# Altium footprint library SK12F17G7.PcbLib: 1 footprints
Each footprint in its own frame and in the unit in brackets; x right, y up, seen from the top. Pads: shape width x height; smd on the part's side, far side on the other; paste and mask are expansions set on the pad; w line width, h text height; cw(c..) or ccw(c..) is an arc to the next point about the centre after c.
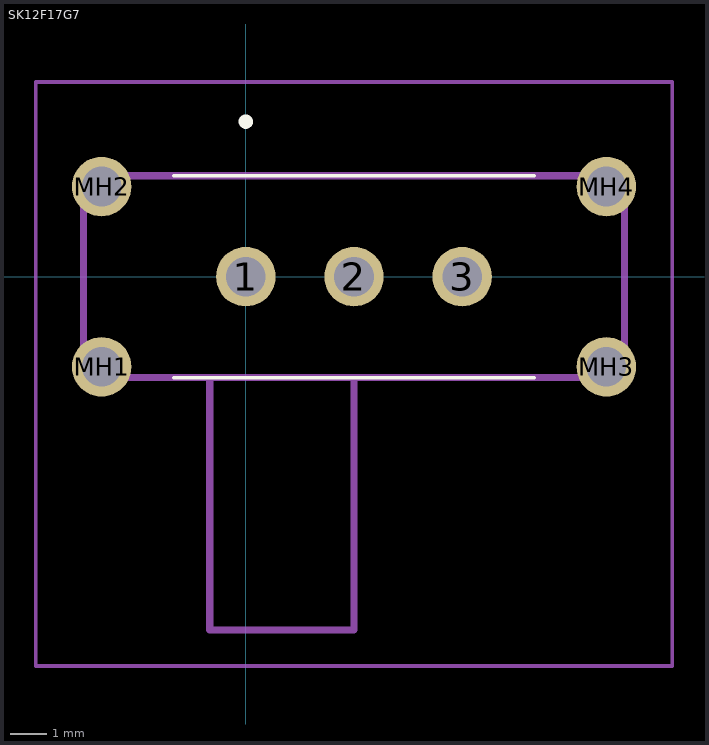
[diagram p0: the footprint, top view; thin cyan lines are the x and y axes]

## SK12F17G7 [mm]
pads (7):
  round 1.65 hole 1.1: 1(0,0) 2(3,0) 3(6,0) MH1(-4,-2.5) MH2(-4,2.5) MH3(10,-2.5) MH4(10,2.5)
Top Overlay:
  lines w0.1: -2,-2.8 8,-2.8 ; -2,2.8 8,2.8
  lines w0.2: 0,4.2 0,4.2 ; 0,4.2 ccw(c0,4.3) 0,4.4 ; 0,4.2 cw(c0,4.3) 0,4.4 ; 0,4.4 0,4.4
Mechanical 15:
  lines w0.2: -1,-2.8 -1,-9.8 3,-9.8 3,-2.8 ; -4.5,-2.8 10.5,-2.8 10.5,2.8 -4.5,2.8 -4.5,-2.8
Mechanical 20:
  lines w0.1: -5.825,-10.8 11.825,-10.8 11.825,5.4 -5.825,5.4 -5.825,-10.8